# Altium schematic symbol library Terminal.SchLib: 11 symbols
Pins are listed as number, name and electrical type; pins without a type are passive.

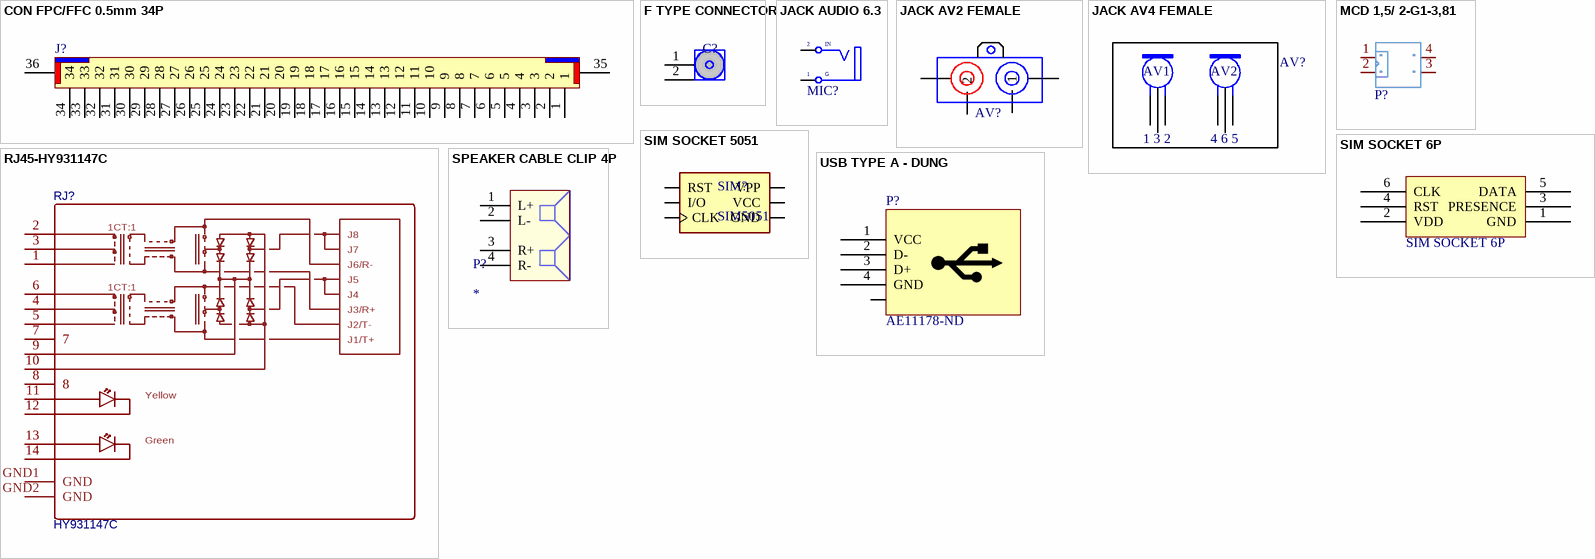
[diagram p0: symbols CON FPC/FFC 0.5mm 34P to USB TYPE A - DUNG]

## CON FPC/FFC 0.5mm 34P
designator J?, comment 0.5mm 34P H  (value not drawn)
CON FPC/FFC 0.5mm 34P horizontal; Manufacturer Part Number: CON FPC/FFC 0.5mm 18P VERTICAL; Manufacturer: CHINA
footprint FPC-0.5MM-34P-H2.0
pins: 1, 2, 3, 4, 5, 6, 7, 8, 9, 10, 11, 12, 13, 14, 15, 16, 17, 18, 19, 20, 21, 22, 23, 24, 25, 26, 27, 28, 29, 30, 31, 32, 33, 34, 35, 36

## F TYPE CONNECTOR
designator C?, comment FEMALE  (value not drawn)
F TYPE FEMALE CONNECTOR
footprint F TYPE CONNECTOR
pins: 1 SIGNAL, 2 GND

## JACK AUDIO 6.3
designator MIC?, comment CK-6.35-309S-11.5  (value not drawn)
VALUE: CK-6.35-309S-11.5
footprint JACK AUDIO 6.3 (mic CK-6.35-309S-11.5)
pins: 1 T "Tip", 3 TN "Tip Normal (Break Contact)"
text: 2; IN; G

## JACK AV2 FEMALE
designator AV?, comment AV2  (value not drawn)
footprint AV2 FELMALE DON DUNG_SLIVER NAM
pins: 1, 2, 3, 4

## JACK AV4 FEMALE
designator AV?, comment 8.4-13  (value not drawn)
JACK AV4 HOA SEN
footprint AV4 FELMALE
pins: 1, 2, 3, 4, 5, 6
text: AV1; AV2; 1 3 2; 4 6 5

## MCD 1,5/ 2-G1-3,81
designator P?  (value not drawn)
1793072
footprint MCD 1,5/ 2-G1-3,81
pins: 1 CS#, 2 SO(IO1, 3 WP#(IO2, 4 GND

## RJ45-HY931147C
designator RJ?, comment HY931147C
C91754; BOM_Manufacturer: HANRUN(汉仁); BOM_Supplier: LCSC; BOM_Manufacturer Part: HY931147C; BOM_Supplier Part: C91754; BOM_JLCPCB Part Class: Extended Part; spicePre: R; spiceSymbolName: HY931147C
footprint RJ45-TH_HY931147C (C91754)
pins: 1, 2, 3, 4, 5, 6, 7, 8, 9, 10, 11, 12, 13, 14, GND1 GND, GND2 GND
text: 1CT:1; J8; J7; J6/R-; J5; J4; J3/R+; J2/T-; J1/T+; Yellow; Green

## SIM SOCKET 6P
designator SIM?
Ma_Hang: MH001823; Ten_LK: Socket SIM 6P SK06
footprint SIM SOCKET 6P
pins: 1 GND, 2 VDD, 3 PRESENCE, 4 RST, 5 DATA, 6 CLK

## SIM SOCKET 5051
designator SIM?, comment SIM5051
Memory Socket, Sim Card, 6pos; MP: SIM5051-6-0-18-00-A REV C; MF: Global Connector Technology; Availability: Unavailable; SnapEDA_Link: https://www.snapeda.com/parts/SIM5051-6-0-18-00-A%20REV%20C/Global%20Connector%20Technology/view-part/812969/?ref=snap; Price: None; Package: None; Value: *
footprint SIM SOCKET 5051
pins: C1 VCC (power), C2 RST, C3 CLK, C5 GND (power), C6 VPP (power), C7 I/O

## SPEAKER CABLE CLIP 4P
designator P?
Cable Clip Push Type Speaker Terminal 4P
footprint SPEAKER CABLE CLIP 4P
pins: 1 L+, 2 L-, 3 R+, 4 R-

## USB TYPE A - DUNG
designator P?, comment AE11178-ND
Value: USB B Cắm
footprint USB A-E (A-USB A-E)
pins: 0 VCC, 1 VCC, 2 D-, 3 D+, 4 GND